# EAGLE library part ESP-03 (library draradech)
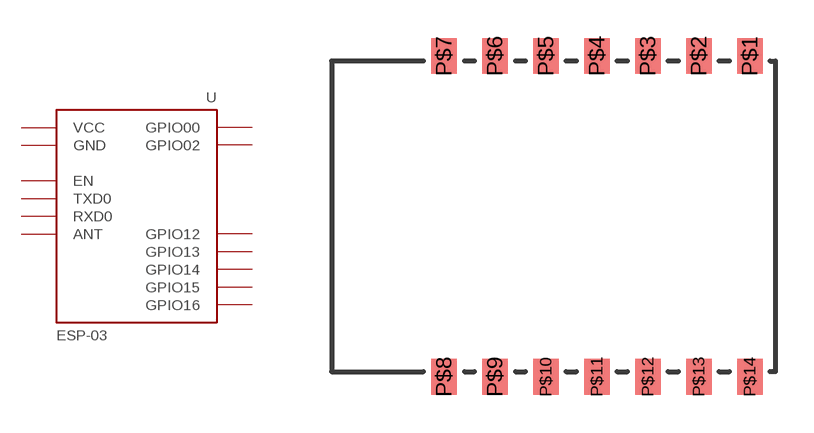
[diagram p1: symbol with the pads of ESP-03; footprint ESP-03]

Designator prefix U

## ESP-03  [ESP-03]
P$1  GND
P$3  TXD0
P$4  RXD0
P$5  GPIO16
P$6  EN
P$7  ANT
P$8  VCC
P$9  GPIO14
P$10  GPIO12
P$11  GPIO13
P$12  GPIO15
P$13  GPIO02
P$14  GPIO00

## Footprint ESP-03 (pad centres in mm)
smd 1 x 1.4: P$1 -1,6.3; P$2 -3,6.3; P$3 -5,6.3; P$4 -7,6.3; P$5 -9,6.3; P$6 -11,6.3; P$7 -13,6.3; P$8 -13,-6.3; P$9 -11,-6.3; P$10 -9,-6.3; P$11 -7,-6.3; P$12 -5,-6.3; P$13 -3,-6.3; P$14 -1,-6.3